# Altium schematic symbol library PE-54044SNL.SchLib: 2 symbols
Pins are listed as number, name and electrical type; pins without a type are passive.

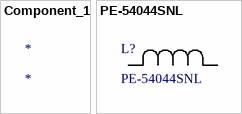
[diagram p0: symbols Component_1 to PE-54044SNL]

## Component_1
designator *

## PE-54044SNL
designator L?
No Description Available; Mfr_Name: Pulse Electronics Corporation; Type: DEV; Copyright: Copyright (C) 2021 Ultra Librarian. All rights reserved.; Manufacturer_Part_Number: PE-54044SNL; Digi-Key_Part_Number_1: 553-1425-ND; RefDes: RefDes
footprint IND_HCI-68_PUL
pins: 1, 2